# Altium schematic symbol library 22-23-2021.SchLib: 1 symbol
Pins are listed as number, name and electrical type; pins without a type are passive.

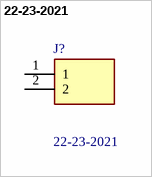
[diagram p0: symbol 22-23-2021]

## 22-23-2021
designator J?
Headers & Wire Housings VERT PCB HDR 2P TIN FRICTION LOCK; Manufacturer_Name: Molex; Geometry.Height: 11.05mm; Mouser Part Number: 538-22-23-2021; Mouser Price/Stock: https://www.mouser.co.uk/ProductDetail/Molex/22-23-2021?qs=ILqg114nvd4YKlRlbo3yMg%3D%3D; Manufacturer_Part_Number: 22-23-2021; Datasheet Link: *
footprint SHDR2W87P0X254_1X2_493X635X1105P
pins: 1, 2